# Altium schematic symbol library XGZP-pressure-sensor.SchLib: 1 symbol
Pins are listed as number, name and electrical type; pins without a type are passive.

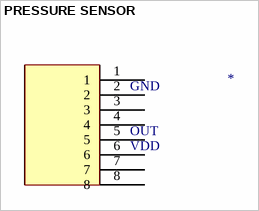
[diagram p0: symbol PRESSURE SENSOR]

## PRESSURE SENSOR
designator ?
footprint SOP251P1810X750-8N (SOP, 8-Leads, Body 12.25x12.25mm, Pitch 2.51mm, IPC Medium Density)
pins: 1, 2, 3, 4, 5, 6, 7, 8
text: GND; OUT; VDD